# Altium footprint library SC-70-6L_Single.PcbLib: 1 footprints
Each footprint in its own frame and in the unit in brackets; x right, y up, seen from the top. Pads: shape width x height; smd on the part's side, far side on the other; paste and mask are expansions set on the pad; w line width, h text height; cw(c..) or ccw(c..) is an arc to the next point about the centre after c.
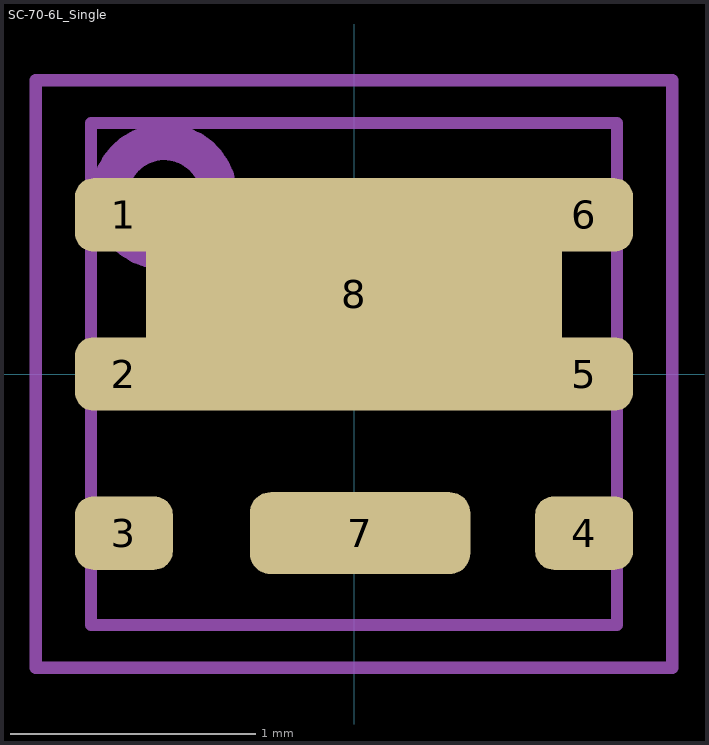
[diagram p0: the footprint, top view; thin cyan lines are the x and y axes]

## SC-70-6L_Single [mm]
pads (8):
  rrect50% 0.4x0.3 smd mask+0.05: 1(-0.94,0.65) 2(-0.94,0) 3(-0.94,-0.65) 4(0.94,-0.65) 5(0.94,0) 6(0.94,0.65)
  rrect50% 0.9x0.335 smd paste-1 mask+0.05: 7(0.025,-0.65)
  rect 1.7x0.95 smd paste-1 mask+0.05: 8(0,0.325)
Top Assembly:
  circle w0.15: c-0.775,0.725 r0.224
  lines w0.05: -1.075,-1.025 1.075,-1.025 1.075,1.025 -1.075,1.025 -1.075,-1.025
Top Courtyard:
  lines w0.05: -1.3,-1.2 -1.3,1.2 1.3,1.2 1.3,-1.2 -1.3,-1.2
3D body "SQA403EJ-T1_GE3.stp": height 0.9, standoff 0, extent -1.07,-1.025 1.07,1.025